# Altium schematic symbol library LTC6811.SchLib: 10 symbols
Pins are listed as number, name and electrical type; pins without a type are passive.

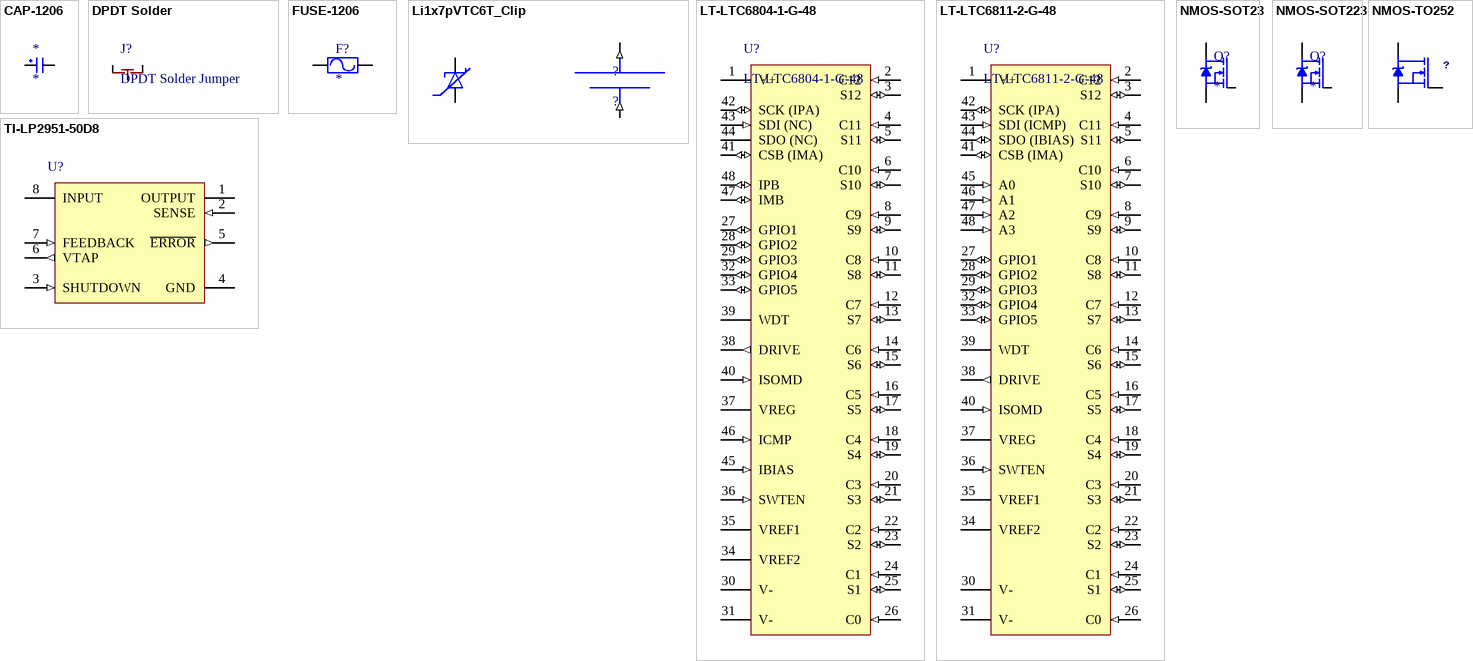
[diagram p0: symbols CAP-1206 to TI-LP2951-50D8]

## CAP-1206
designator *
footprint CAPCP3216X16N (Chip Capacitor, 2-Leads, Body 3.20x1.60mm, IPC Medium Density)
pins: 1, 2

## DPDT Solder
designator J?, comment DPDT Solder Jumper
footprint DPDT Solder
pins: 1, 2, 3

## FUSE-1206
designator F?
footprint FUSE1206
pins: 1, 2

## Li1x7pVTC6T_Clip
designator ?, comment ?
footprint Li1x7pVTC6T_Clips
pins: + (out), - (in), T+, T-

## LT-LTC6804-1-G-48
designator U?
footprint SSOP-48N
pins: 1 V+ (power) "Positive Supply Pin.", 2 C12 (in) "Cell Inputs.", 3 S12 (io) "Balance Inputs/Outputs. 12 N-MOSFETs are connected between S(n) and C(n - 1) for discharging cells.", 4 C11 (in) "Cell Inputs.", 5 S11 (io) "Balance Inputs/Outputs. 12 N-MOSFETs are connected between S(n) and C(n - 1) for discharging cells.", 6 C10 (in) "Cell Inputs.", 7 S10 (io) "Balance Inputs/Outputs. 12 N-MOSFETs are connected between S(n) and C(n - 1) for discharging cells.", 8 C9 (in) "Cell Inputs.", 9 S9 (io) "Balance Inputs/Outputs. 12 N-MOSFETs are connected between S(n) and C(n - 1) for discharging cells.", 10 C8 (in) "Cell Inputs.", 11 S8 (io) "Balance Inputs/Outputs. 12 N-MOSFETs are connected between S(n) and C(n - 1) for discharging cells.", 12 C7 (in) "Cell Inputs.", 13 S7 (io) "Balance Inputs/Outputs. 12 N-MOSFETs are connected between S(n) and C(n - 1) for discharging cells.", 14 C6 (in) "Cell Inputs.", 15 S6 (io) "Balance Inputs/Outputs. 12 N-MOSFETs are connected between S(n) and C(n - 1) for discharging cells.", 16 C5 (in) "Cell Inputs.", 17 S5 (io) "Balance Inputs/Outputs. 12 N-MOSFETs are connected between S(n) and C(n - 1) for discharging cells.", 18 C4 (in) "Cell Inputs.", 19 S4 (io) "Balance Inputs/Outputs. 12 N-MOSFETs are connected between S(n) and C(n - 1) for discharging cells.", 20 C3 (in) "Cell Inputs.", 21 S3 (io) "Balance Inputs/Outputs. 12 N-MOSFETs are connected between S(n) and C(n - 1) for discharging cells.", 22 C2 (in) "Cell Inputs.", 23 S2 (io) "Balance Inputs/Outputs. 12 N-MOSFETs are connected between S(n) and C(n - 1) for discharging cells.", 24 C1 (in) "Cell Inputs.", 25 S1 (io) "Balance Inputs/Outputs. 12 N-MOSFETs are connected between S(n) and C(n - 1) for discharging cells.", 26 C0 (in) "Cell Inputs.", 27 GPIO1 (io) "General Purpose I/O. Can be used as digital inputs or digital outputs, or as analog inputs with a measurement range from V- to 5V.", 28 GPIO2 (io) "General Purpose I/O. Can be used as digital inputs or digital outputs, or as analog inputs with a measurement range from V- to 5V.", 29 GPIO3 (io) "General Purpose I/O. Can be used as digital inputs or digital outputs, or as analog inputs with a measurement range from V- to 5V. GPIO [3:5] can be used as an I2C or SPI port.", 30 V- (power) "Negative Supply Pins. The V- pins must be shorted together, external to the IC.", 31 V- (power) "Negative Supply Pins. The V- pins must be shorted together, external to the IC.", 32 GPIO4 (io) "General Purpose I/O. Can be used as digital inputs or digital outputs, or as analog inputs with a measurement range from V- to 5V. GPIO [3:5] can be used as an I2C or SPI port.", 33 GPIO5 (io) "General Purpose I/O. Can be used as digital inputs or digital outputs, or as analog inputs with a measurement range from V- to 5V. GPIO [3:5] can be used as an I2C or SPI port.", 34 VREF2 "Buffered 2nd reference voltage for driving multiple 10k thermistors. Bypass with an external 1uF capacitor.", 35 VREF1 "ADC Reference Voltage. Bypass with an external 1uF capacitor. No DC loads allowed.", 36 SWTEN (in) "Software Timer Enable. Connect this pin to VREG to enable the software timer.", 37 VREG (power) "5V Regulator Input. Bypass with an external 1uF capacitor.", 38 DRIVE (out) "Connect the base of an NPN to this pin. Connect the collector to V+ and the emitter to VREG.", 39 WDT (hiz) "Watchdog Timer Output Pin. This is an open drain NMOS digital output. It can be left unconnected or connected with a 1M resistor to VREG. If the LTC6804 does not receive a valid command within 2 seconds, the watchdog timer (See Datasheet)", 40 ISOMD (in) "Serial Interface Mode. Connecting ISOMD to VREG configures Pins 41 to 44 of the LTC6804 for 2-wire isolated interface (isoSPI) mode. Connecting ISOMD to V- configures the LTC6804 for 4-wire SPI mode.", 41 CSB (IMA) (io), 42 SCK (IPA) (io), 43 SDI (NC) (in), 44 SDO (NC) (oc), 45 IBIAS (in) "Isolated Interface Current Bias. Tie IBIAS to V- through a resistor divider to set the interface output current level. When the isoSPI interface is enabled, the IBIAS pin voltage is 2V. The IPA/IMA or IPB/IMB output current (See Datasheet)", 46 ICMP (in) "Isolated Interface Comparator Voltage Threshold Set. Tie this pin to the resistor divider between IBIAS and V- to set the voltage threshold of the isoSPI receiver comparators. The comparator thresholds are set to 1/2 the (See Datasheet)", 47 IMB (io) "Isolated 2-Wire Serial Interface Port B. IMB (minus) are a differential input/output pair.", 48 IPB (io) "Isolated 2-Wire Serial Interface Port B. IPB (plus) are a differential input/output pair."

## LT-LTC6811-2-G-48
designator U?
footprint SSOP-48N
pins: 1 V+ (power) "Positive Supply Pin.", 2 C12 (in) "Cell Inputs.", 3 S12 (io) "Balance Inputs/Outputs. 12 N-MOSFETs are connected between S(n) and C(n - 1) for discharging cells.", 4 C11 (in) "Cell Inputs.", 5 S11 (io) "Balance Inputs/Outputs. 12 N-MOSFETs are connected between S(n) and C(n - 1) for discharging cells.", 6 C10 (in) "Cell Inputs.", 7 S10 (io) "Balance Inputs/Outputs. 12 N-MOSFETs are connected between S(n) and C(n - 1) for discharging cells.", 8 C9 (in) "Cell Inputs.", 9 S9 (io) "Balance Inputs/Outputs. 12 N-MOSFETs are connected between S(n) and C(n - 1) for discharging cells.", 10 C8 (in) "Cell Inputs.", 11 S8 (io) "Balance Inputs/Outputs. 12 N-MOSFETs are connected between S(n) and C(n - 1) for discharging cells.", 12 C7 (in) "Cell Inputs.", 13 S7 (io) "Balance Inputs/Outputs. 12 N-MOSFETs are connected between S(n) and C(n - 1) for discharging cells.", 14 C6 (in) "Cell Inputs.", 15 S6 (io) "Balance Inputs/Outputs. 12 N-MOSFETs are connected between S(n) and C(n - 1) for discharging cells.", 16 C5 (in) "Cell Inputs.", 17 S5 (io) "Balance Inputs/Outputs. 12 N-MOSFETs are connected between S(n) and C(n - 1) for discharging cells.", 18 C4 (in) "Cell Inputs.", 19 S4 (io) "Balance Inputs/Outputs. 12 N-MOSFETs are connected between S(n) and C(n - 1) for discharging cells.", 20 C3 (in) "Cell Inputs.", 21 S3 (io) "Balance Inputs/Outputs. 12 N-MOSFETs are connected between S(n) and C(n - 1) for discharging cells.", 22 C2 (in) "Cell Inputs.", 23 S2 (io) "Balance Inputs/Outputs. 12 N-MOSFETs are connected between S(n) and C(n - 1) for discharging cells.", 24 C1 (in) "Cell Inputs.", 25 S1 (io) "Balance Inputs/Outputs. 12 N-MOSFETs are connected between S(n) and C(n - 1) for discharging cells.", 26 C0 (in) "Cell Inputs.", 27 GPIO1 (io) "General Purpose I/O. Can be used as digital inputs or digital outputs, or as analog inputs with a measurement range from V- to 5V.", 28 GPIO2 (io) "General Purpose I/O. Can be used as digital inputs or digital outputs, or as analog inputs with a measurement range from V- to 5V.", 29 GPIO3 (io) "General Purpose I/O. Can be used as digital inputs or digital outputs, or as analog inputs with a measurement range from V- to 5V. GPIO [3:5] can be used as an I2C or SPI port.", 30 V- (power) "Negative Supply Pins. The V- pins must be shorted together, external to the IC.", 31 V- (power) "Negative Supply Pins. The V- pins must be shorted together, external to the IC.", 32 GPIO4 (io) "General Purpose I/O. Can be used as digital inputs or digital outputs, or as analog inputs with a measurement range from V- to 5V. GPIO [3:5] can be used as an I2C or SPI port.", 33 GPIO5 (io) "General Purpose I/O. Can be used as digital inputs or digital outputs, or as analog inputs with a measurement range from V- to 5V. GPIO [3:5] can be used as an I2C or SPI port.", 34 VREF2 "Buffered 2nd reference voltage for driving multiple 10k thermistors. Bypass with an external 1uF capacitor.", 35 VREF1 "ADC Reference Voltage. Bypass with an external 1uF capacitor. No DC loads allowed.", 36 SWTEN (in) "Software Timer Enable. Connect this pin to VREG to enable the software timer.", 37 VREG (power) "5V Regulator Input. Bypass with an external 1uF capacitor.", 38 DRIVE (out) "Connect the base of an NPN to this pin. Connect the collector to V+ and the emitter to VREG.", 39 WDT (hiz) "Watchdog Timer Output Pin. This is an open drain NMOS digital output. It can be left unconnected or connected with a 1M resistor to VREG. If the LTC6804 does not receive a valid command within 2 seconds, the watchdog timer (See Datasheet)", 40 ISOMD (in) "Serial Interface Mode. Connecting ISOMD to VREG configures Pins 41 to 44 of the LTC6804 for 2-wire isolated interface (isoSPI) mode. Connecting ISOMD to V- configures the LTC6804 for 4-wire SPI mode.", 41 CSB (IMA) (io), 42 SCK (IPA) (io), 43 SDI (ICMP) (in), 44 SDO (IBIAS) (io), 45 A0 (in) "Address Pins. These digital inputs are connected to VREG or V- to set the chip address for addressable serial commands.", 46 A1 (in) "Address Pins. These digital inputs are connected to VREG or V- to set the chip address for addressable serial commands.", 47 A2 (in) "Address Pins. These digital inputs are connected to VREG or V- to set the chip address for addressable serial commands.", 48 A3 (in) "Address Pins. These digital inputs are connected to VREG or V- to set the chip address for addressable serial commands."

## NMOS-SOT23
designator Q?
footprint SOT23 (SOT23, 3-Leads, Body 2.90x2.37mm, Pitch 0.95mm, IPC Medium Density)
pins: 1 G, 2 S, 3 D

## NMOS-SOT223
designator Q?
footprint SOT223 (SOT223, 4-Leads, Body 6.50x7.00mm (avg), Pitch 2.30mm, IPC Medium Density)
pins: 1 G, 2 D, 3 S, 4 D

## NMOS-TO252
designator ?
GateName_1: G$1; SymbolName_1: LABELED-PMOS; DeviceSetName: DMP10H400SK3-13; LibraryName: IFE_Transistors; Package: TO252
footprint TO252
pins: 1 G, 2 D, 3 S

## TI-LP2951-50D8
designator U?
footprint SOIC127P600X175-8N (SOIC, 8-Leads, Body 4.90x3.90mm, Pitch 1.27mm, IPC Medium Density)
pins: 1 OUTPUT (power), 2 SENSE (in), 3 SHUTDOWN (in), 4 GND (power), 5 ~{ERROR} (out), 6 VTAP (out), 7 FEEDBACK (in), 8 INPUT (power)